# EAGLE library part SIM800_MINI (library BRD-GSM)
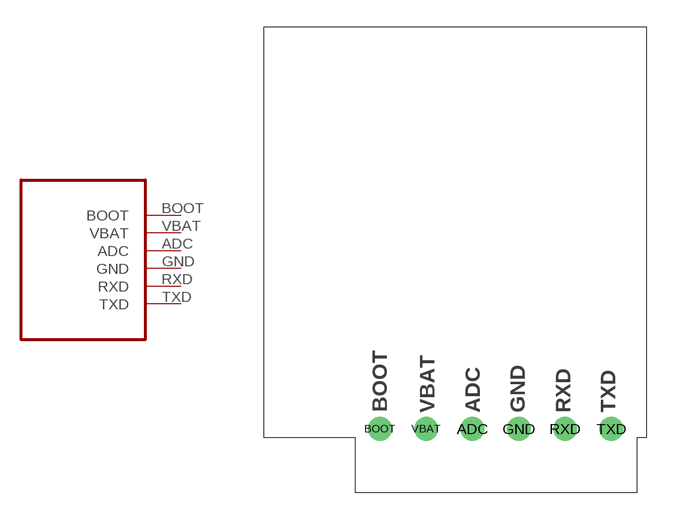
[diagram p0: symbol with the pads of SIM800-MINI; footprint SIM800-MINI]

Designator prefix -

## SIM800_MINI  [SIM800-MINI]
ADC  ADC
BOOT  BOOT
GND  GND
RXD  RXD
TXD  TXD
VBAT  VBAT

## Footprint SIM800-MINI (pad centres in mm)
drill 0.8: ADC 0.1,-7.72; BOOT -4.98,-7.72; GND 2.64,-7.72; RXD 5.18,-7.72; TXD 7.72,-7.72; VBAT -2.44,-7.72